# Altium schematic symbol library CONN2x4.Schlib: 1 symbol
Pins are listed as number, name and electrical type; pins without a type are passive.

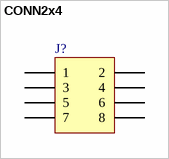
[diagram p0: symbol CONN2x4]

## CONN2x4
designator J?
Connector, 8-Pos, Dual row
signal-integrity model Connector
pins: 1, 2, 3, 4, 5, 6, 7, 8
2 alternate drawings of the same symbol